# EAGLE library part MAX13330 (library ld-components)
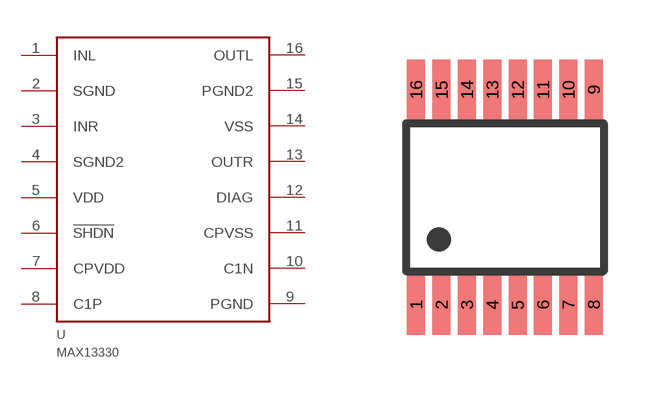
[diagram p16: symbol with the pads of QSOP16; footprint QSOP16]

Designator prefix -

## MAX13330  [QSOP16]
1  INL
2  SGND
3  INR
4  SGND2
5  VDD
6  !SHDN
7  CPVDD
8  C1P
9  PGND
10  C1N
11  CPVSS
12  DIAG
13  OUTR
14  VSS
15  PGND2
16  OUTL

## Footprint QSOP16 (pad centres in mm)
Small Outline Package
smd 0.45 x 1.5: 1 -2.223,-2.69; 2 -1.587,-2.69; 3 -0.953,-2.69; 4 -0.318,-2.69; 5 0.318,-2.69; 6 0.953,-2.69; 7 1.587,-2.69; 8 2.223,-2.69; 9 2.223,2.69; 10 1.587,2.69; 11 0.953,2.69; 12 0.318,2.69; 13 -0.318,2.69; 14 -0.953,2.69; 15 -1.587,2.69; 16 -2.223,2.69